# EAGLE library part MCP23016 (library DH_servis)
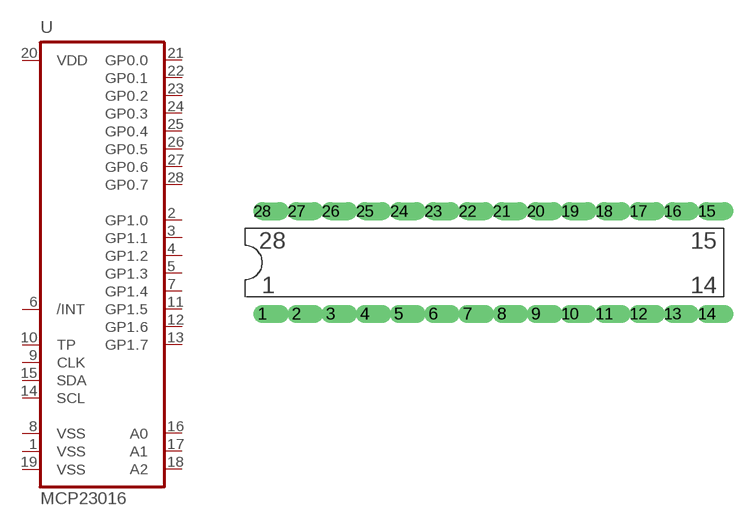
[diagram p2: symbol with the pads of DIL28/3; footprint DIL28/3]

Designator prefix -

## MCP23016*  [DIL28/3]
1  VSS  pwr
2  GP1.0
3  GP1.1
4  GP1.2
5  GP1.3
6  /INT  out
7  GP1.4
8  VSS  pwr
9  CLK  in
10  TP  out
11  GP1.5
12  GP1.6
13  GP1.7
14  SCL  in
15  SDA
16  A0  in
17  A1  in
18  A2  in
19  VSS  pwr
20  VDD  pwr
21  GP0.0
22  GP0.1
23  GP0.2
24  GP0.3
25  GP0.4
26  GP0.5
27  GP0.6
28  GP0.7

## Footprint DIL28/3 (pad centres in mm)
drill 0.813 offset: 1 -16.51,-3.81; 2 -13.97,-3.81; 3 -11.43,-3.81; 4 -8.89,-3.81; 5 -6.35,-3.81; 6 -3.81,-3.81; 7 -1.27,-3.81; 8 1.27,-3.81; 9 3.81,-3.81; 10 6.35,-3.81; 11 8.89,-3.81; 12 11.43,-3.81; 13 13.97,-3.81; 14 16.51,-3.81; 15 16.51,3.81; 16 13.97,3.81; 17 11.43,3.81; 18 8.89,3.81; 19 6.35,3.81; 20 3.81,3.81; 21 1.27,3.81; 22 -1.27,3.81; 23 -3.81,3.81; 24 -6.35,3.81; 25 -8.89,3.81; 26 -11.43,3.81; 27 -13.97,3.81; 28 -16.51,3.81